# EAGLE library part 74HC4067 (library ICs)
1 Circuit IC Switch 16:1 120 Ohm 24-TSSOP
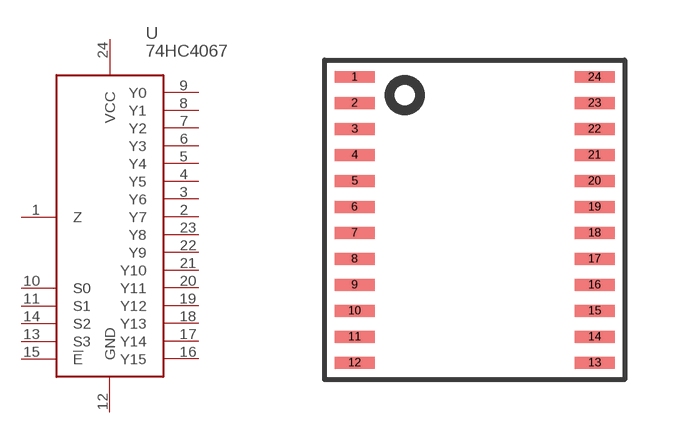
[diagram p221: symbol with the pads of TSSOP24; footprint TSSOP24]

Designator prefix U

## 74HC4067 (DIGIKEY: 1727-3311-ND; HEIGHT: 1.5; PRICE_PER: 0.75; VALUE: 16:1 MUX)  [TSSOP24]
1  Z
2  Y7
3  Y6
4  Y5
5  Y4
6  Y3
7  Y2
8  Y1
9  Y0
10  S0
11  S1
12  GND
13  S3
14  S2
15  !E
16  Y15
17  Y14
18  Y13
19  Y12
20  Y11
21  Y10
22  Y9
23  Y8
24  VCC

## Footprint TSSOP24 (pad centres in mm)
smd 1 x 0.3: 1 -3,3.575; 2 -3,2.925; 3 -3,2.275; 4 -3,1.625; 5 -3,0.975; 6 -3,0.325; 7 -3,-0.325; 8 -3,-0.975; 9 -3,-1.625; 10 -3,-2.275; 11 -3,-2.925; 12 -3,-3.575; 13 3,-3.575; 14 3,-2.925; 15 3,-2.275; 16 3,-1.625; 17 3,-0.975; 18 3,-0.325; 19 3,0.325; 20 3,0.975; 21 3,1.625; 22 3,2.275; 23 3,2.925; 24 3,3.575